# Altium integrated library DC-DC.IntLib: 8 symbols
Pins are listed as number, name and electrical type; pins without a type are passive.

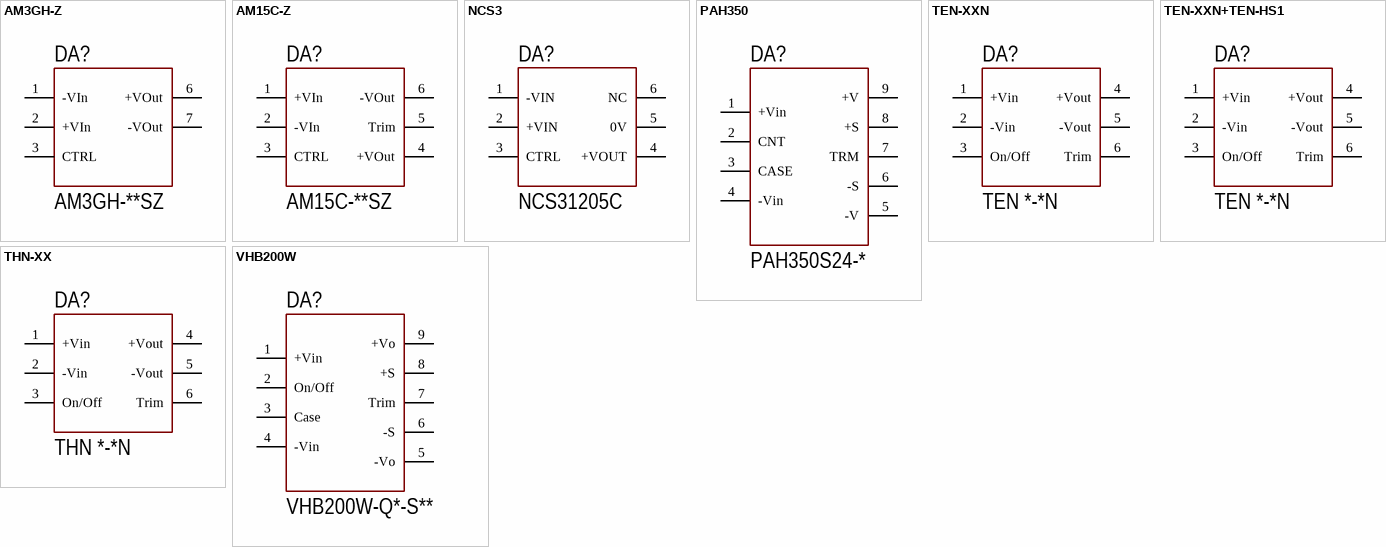
[diagram p0: symbols AM3GH-Z to VHB200W]

## AM3GH-Z
designator DA?, comment AM3GH-**SZ
3 Watt | DC-DC Converter; Part: AM3GH; Voltage: *; Output: *
footprint AM3GH-Z
pins: 1 -VIn, 2 +VIn, 3 CTRL, 6 +VOut, 7 -VOut

## AM15C-Z
designator DA?, comment AM15C-**SZ
15Watt | DC-DC Converter; Part: AM15C; Voltage: *; Output: *
footprint AM15C-Z
pins: 1 +VIn, 2 -VIn, 3 CTRL, 4 +VOut, 5 Trim, 6 -VOut

## NCS3
designator DA?, comment NCS31205C
Isolated 3W 4:1 Input Single Output DC-DC Converters; Part: NCS3; Input: 12; Output: 05
footprint NCS3
pins: 1 -VIN, 2 +VIN, 3 CTRL, 4 +VOUT, 5 0V, 6 NC

## PAH350
designator DA?, comment PAH350S24-*
350Watt | DC-DC Converter; Part: PAH350S24; Output: *
footprint PAH350
pins: 1 +Vin, 2 CNT, 3 CASE, 4 -Vin, 5 -V, 6 -S, 7 TRM, 8 +S, 9 +V

## TEN-XXN
designator DA?, comment TEN *-*N
Traco TEN DC-DC Converter; Part: TEN; Code: *; Power: *
footprint TEN-XXN
pins: 1 +Vin, 2 -Vin, 3 On/Off, 4 +Vout, 5 -Vout, 6 Trim

## TEN-XXN+TEN-HS1
designator DA?, comment TEN *-*N
Traco TEN DC-DC Converter + TEN-HS1 Heatsink; HS: TEN-HS1; Part: TEN; Code: *; Power: *
footprint TEN-XXN+TEN-HS1
pins: 1 +Vin, 2 -Vin, 3 On/Off, 4 +Vout, 5 -Vout, 6 Trim

## THN-XX
designator DA?, comment THN *-*N
Traco THN DC-DC Converter; Part: THN; Code: *; Power: *
footprint THN-XXN
pins: 1 +Vin, 2 -Vin, 3 On/Off, 4 +Vout, 5 -Vout, 6 Trim

## VHB200W
designator DA?, comment VHB200W-Q*-S**
200 W, 4:1 Input Range, Single Regulated Output, 1/2 Brick, 1500 Vdc Isolation, Dc-Dc Converter; Part: VHB200W; Voltage: *; Output: *; Logic: *
footprint VHB200W
pins: 1 +Vin, 2 On/Off, 3 Case, 4 -Vin, 5 -Vo, 6 -S, 7 Trim, 8 +S, 9 +Vo